# Altium schematic symbol library Solar_Schlib1.SchLib: 15 symbols
Pins are listed as number, name and electrical type; pins without a type are passive.

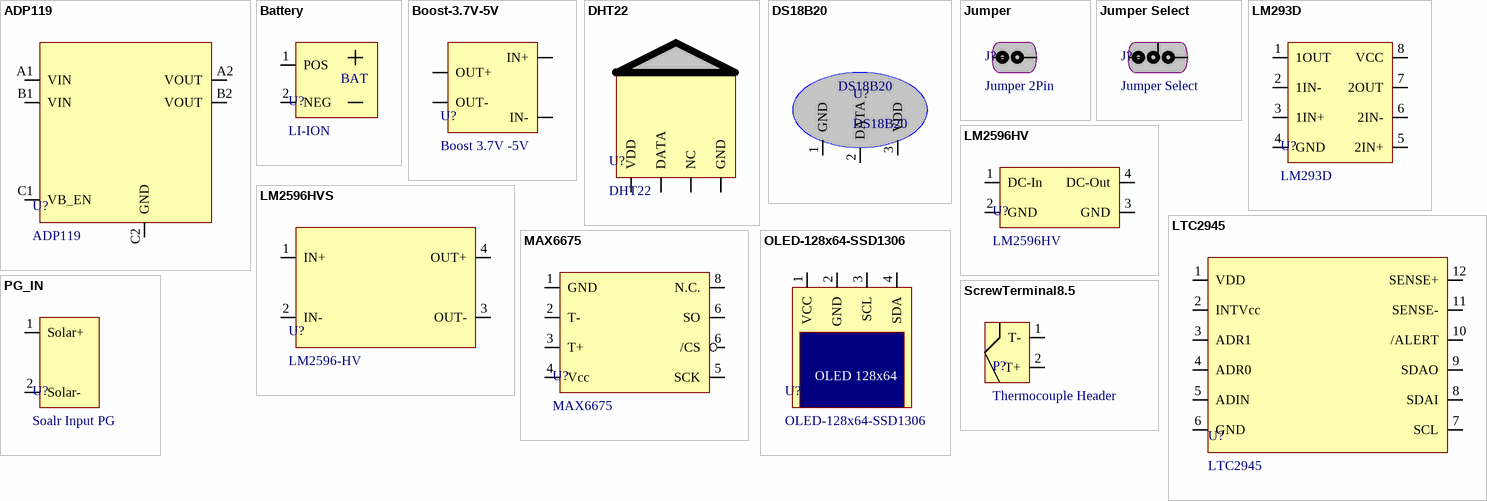
[diagram p0: symbols ADP119 to ScrewTerminal8.5]

## ADP119
designator U?
pins: A1 VIN (power), A2 VOUT (power), B1 VIN (power), B2 VOUT (power), C1 VB_EN (power), C2 GND (power)

## Battery
designator U?, comment LI-ION
Li Ion Battery 3.7V
pins: 1 POS (power), 2 NEG (power)
text: BAT

## Boost-3.7V-5V
designator U?, comment Boost 3.7V -5V
Boost converter module from Cell to 5V
pins: IN+ (power), IN- (power), OUT+ (power), OUT- (power)

## DHT22
designator U?
Temperature and Humidity Sensor
footprint DHT22_AM2303_HORIZ
pins: DATA (power), GND (power), NC (power), VDD (power)

## DS18B20
designator U?
On Board Temperature Sensor
pins: 1 GND (power), 2 DATA (power), 3 VDD (power)

## Jumper
designator J?, comment Jumper 2Pin
2.54, Pin header
footprint H2-2.54
pins: 1 (power), 2 (power)

## Jumper Select
designator J?
2.54mm Pitch male header
pins: 1 (power), 2 (power), 3 (power)

## LM293D
designator U?
Dual Differential Comparators
pins: 1 1OUT (power), 2 1IN- (power), 3 1IN+ (power), 4 GND (power), 5 2IN+ (power), 6 2IN- (power), 7 2OUT (power), 8 VCC (power)

## LM2596HV
designator U?
DC DC Adjustable Buck converter input upto 60V
footprint LM2596HVS DC-DC step-down module
pins: 1 DC-In (power), 2 GND (power), 3 GND (power), 4 DC-Out (power)

## LM2596HVS
designator U?, comment LM2596-HV
DC DC Buck converter 5V output
pins: 1 IN+ (power), 2 IN- (power), 3 OUT- (power), 4 OUT+ (power)

## LTC2945
designator U?
V I P Monitor I2C Interface
pins: 1 VDD (power), 2 INTVcc (power), 3 ADR1 (power), 4 ADR0 (power), 5 ADIN (power), 6 GND (power), 7 SCL (power), 8 SDAI (power), 9 SDAO (power), 10 /ALERT (power), 11 SENSE- (power), 12 SENSE+ (power)

## MAX6675
designator U?
K-Thermocoupleto-Digital  Converter
pins: 1 GND (power), 2 T- (power), 3 T+ (power), 4 Vcc (power), 5 SCK (power), 6 /CS (power), 6 SO (power), 8 N.C. (power)

## OLED-128x64-SSD1306
designator U?
OLED Display OLED-128x64-SSD1306
pins: 1 VCC (power), 2 GND (power), 3 SCL (power), 4 SDA (power)
text: OLED 128x64

## PG_IN
designator U?, comment Soalr Input PG
pins: 1 Solar+ (power), 2 Solar- (power)

## ScrewTerminal8.5
designator P?, comment Thermocouple Header
K Type Termocouple
pins: 1 T- (power), 2 T+ (power)